# Altium footprint library 0603_S.PcbLib: 1 footprints
Each footprint in its own frame and in the unit in brackets; x right, y up, seen from the top. Pads: shape width x height; smd on the part's side, far side on the other; paste and mask are expansions set on the pad; w line width, h text height; cw(c..) or ccw(c..) is an arc to the next point about the centre after c.
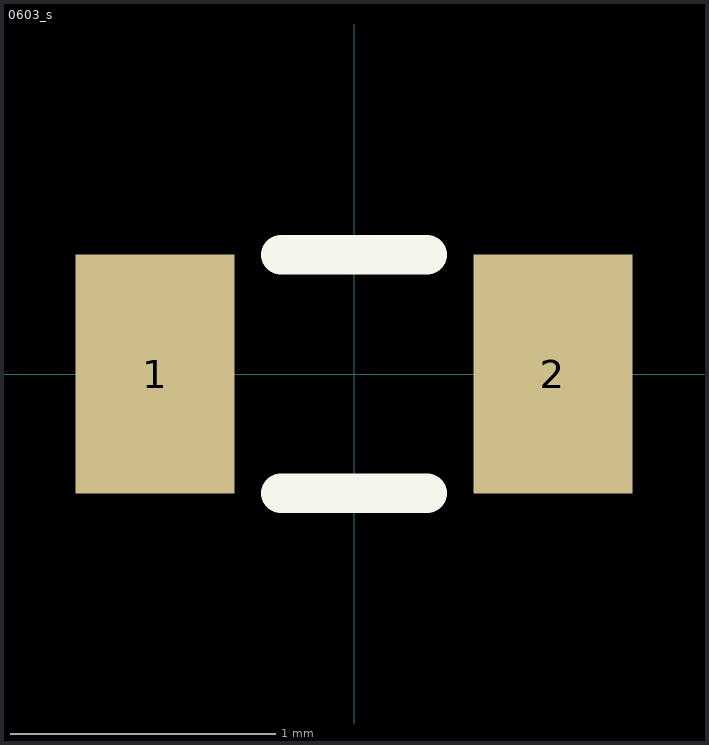
[diagram p0: the footprint, top view; thin cyan lines are the x and y axes]

## 0603_s [mm] "Standard 0603 footprint, small"
height 0.45
pads (2):
  rect 0.6x0.9 smd: 1(-0.75,0) 2(0.75,0)
Top Overlay:
  lines w0.15: -0.275,-0.45 0.275,-0.45 ; -0.275,0.45 0.275,0.45
3D body "RES_1609-0603.step": height 0.56, standoff 0, extent -0.85,-0.4 0.85,0.4